# Altium footprint library SW_TL3315NF100Q.PcbLib: 1 footprints
Each footprint in its own frame and in the unit in brackets; x right, y up, seen from the top. Pads: shape width x height; smd on the part's side, far side on the other; paste and mask are expansions set on the pad; w line width, h text height; cw(c..) or ccw(c..) is an arc to the next point about the centre after c.
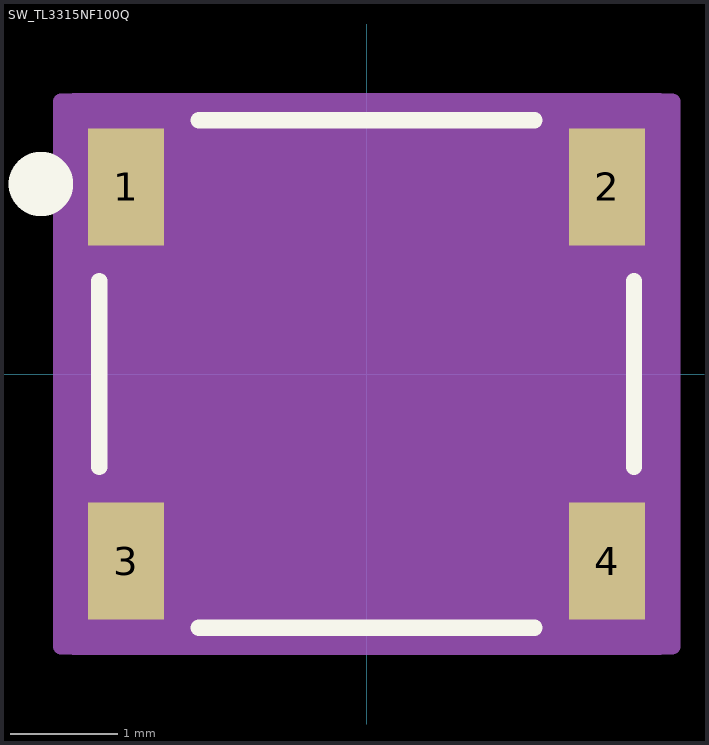
[diagram p0: the footprint, top view; thin cyan lines are the x and y axes]

## SW_TL3315NF100Q [mm]
pads (4):
  rect 0.711x1.092 smd paste+0 mask+0: 1(-2.25,1.75) 2(2.25,1.75) 3(-2.25,-1.75) 4(2.25,-1.75)
Top Overlay:
  circle w0.508: c-3.048,1.778 r0.047
  lines w0.152: -2.502,-0.871 -2.502,0.871 ; -1.571,-2.375 1.571,-2.375 ; -1.571,2.375 1.571,2.375 ; 2.502,-0.871 2.502,0.871
Mechanical 5:
  region: -2.756,2.629 2.756,2.629 2.756,-2.629 -2.756,-2.629
Mechanical 13:
  lines w0.025: -2.375,-2.248 -2.375,2.248 2.375,2.248 2.375,-2.248 -2.375,-2.248
Mechanical 15:
  region: 2.86,2.55 -2.86,2.55 -2.86,-2.55 2.86,-2.55
  lines w0.152: -2.86,-2.55 2.86,-2.55 2.86,2.55 -2.86,2.55 -2.86,-2.55
3D body "TL3315NFxxxQ.stp": height 0.61, standoff 0.01, extent -2.375,-2.25 2.375,2.25
3D body: height 0.25, standoff 0, extent 0,0 0.254,0.254